# Altium footprint library SOIC-16(4.0X10.0).PcbLib: 1 footprints
Each footprint in its own frame and in the unit in brackets; x right, y up, seen from the top. Pads: shape width x height; smd on the part's side, far side on the other; paste and mask are expansions set on the pad; w line width, h text height; cw(c..) or ccw(c..) is an arc to the next point about the centre after c.
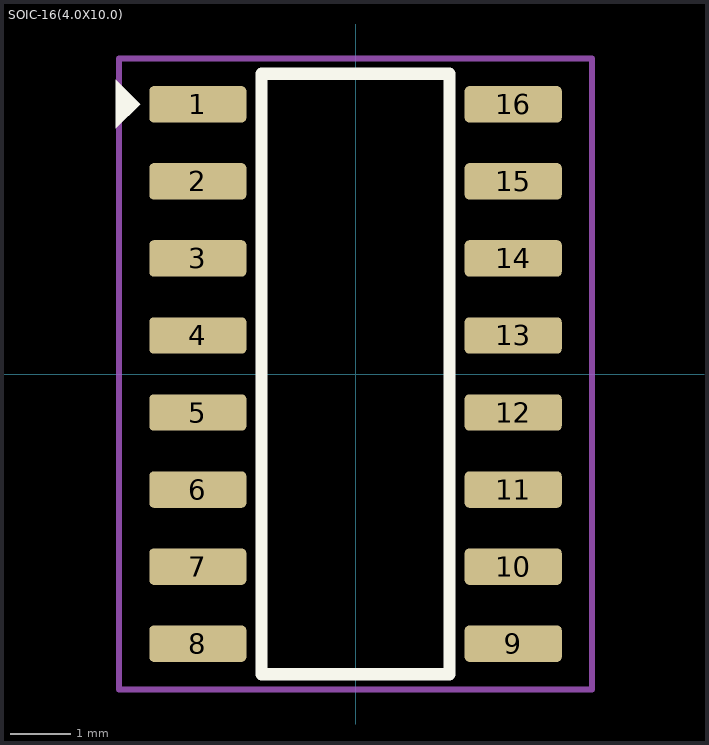
[diagram p0: the footprint, top view; thin cyan lines are the x and y axes]

## SOIC-16(4.0X10.0) [mm]
pads (16):
  rrect25% 1.6x0.6 smd: 1(-2.6,4.445) 2(-2.6,3.175) 3(-2.6,1.905) 4(-2.6,0.635) 5(-2.6,-0.635) 6(-2.6,-1.905) 7(-2.6,-3.175) 8(-2.6,-4.445) 9(2.6,-4.445) 10(2.6,-3.175) 11(2.6,-1.905) 12(2.6,-0.635) 13(2.6,0.635) 14(2.6,1.905) 15(2.6,3.175) 16(2.6,4.445)
Top Overlay:
  region: -3.95,4.05 -3.95,4.85 -3.55,4.45
  lines w0.2: -1.55,-4.95 1.55,-4.95 1.55,4.95 -1.55,4.95 -1.55,-4.95
Top Courtyard:
  lines w0.1: -3.9,-5.2 3.9,-5.2 3.9,5.2 -3.9,5.2 -3.9,-5.2
3D body "MAX3232ESE.STEP": height 1.75, standoff 0, extent -3,-4.95 3,4.95